# Altium integrated library omron.IntLib: 2 symbols
Pins are listed as number, name and electrical type; pins without a type are passive.

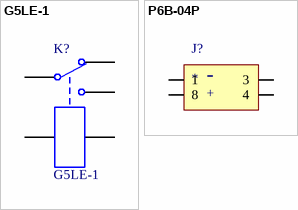
[diagram p0: symbols G5LE-1 to P6B-04P]

## G5LE-1
designator K?
Single-Pole Dual-Throw Relay; Published: 24-Mar-1999; LatestRevisionDate: 17-Jul-2002; LatestRevisionNote: Re-released for DXP Platform.; PackageReference: MODULE5B; Publisher: Altium Limited
footprint G5LE (Relay)
pins: 1, 2, 3, 4, 5

## P6B-04P
designator J?
Relay Socket (G6B SPST Relay)
footprint P6B-04P
pins: 1, 3, 4, 8
text: -; +